# EAGLE library part FTDI_FT2232C (library OOCD-Link_simple-04)
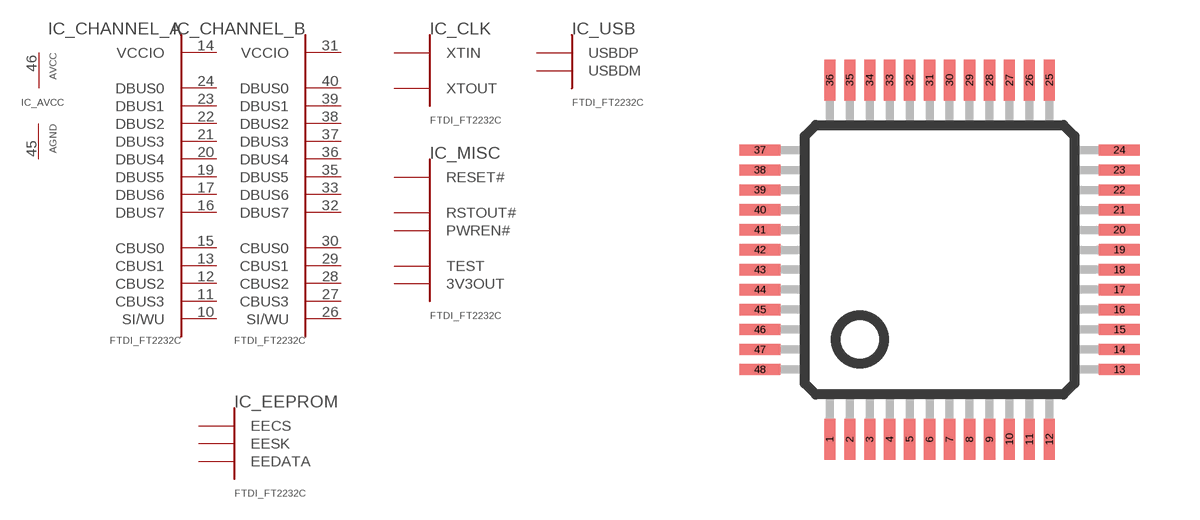
[diagram p0: symbol with the pads of FTDI_LQFP; footprint FTDI_LQFP]

Designator prefix IC; gates _AVCC=FTDI_FT2232_AVCC _CHANNEL_A=FTDI_FT2232_CHANNEL _CHANNEL_B=FTDI_FT2232_CHANNEL _CLK=FTDI_FT2232_CLK _EEPROM=FTDI_FT232_EEPROM _MISC=FTDI_FT2232_MISC _USB=FTDI_FT2232_USB

## FTDI_FT2232C  [FTDI_LQFP]
1  _EEPROM:EESK  out
2  _EEPROM:EEDATA
4  _MISC:RESET#  in
5  _MISC:RSTOUT#  out
6  _MISC:3V3OUT  pwr
7  _USB:USBDP
8  _USB:USBDM
10  _CHANNEL_A:SI/WU
11  _CHANNEL_A:CBUS3
12  _CHANNEL_A:CBUS2
13  _CHANNEL_A:CBUS1
14  _CHANNEL_A:VCCIO  pwr
15  _CHANNEL_A:CBUS0
16  _CHANNEL_A:DBUS7
17  _CHANNEL_A:DBUS6
19  _CHANNEL_A:DBUS5
20  _CHANNEL_A:DBUS4
21  _CHANNEL_A:DBUS3
22  _CHANNEL_A:DBUS2
23  _CHANNEL_A:DBUS1
24  _CHANNEL_A:DBUS0
26  _CHANNEL_B:SI/WU
27  _CHANNEL_B:CBUS3
28  _CHANNEL_B:CBUS2
29  _CHANNEL_B:CBUS1
30  _CHANNEL_B:CBUS0
31  _CHANNEL_B:VCCIO  pwr
32  _CHANNEL_B:DBUS7
33  _CHANNEL_B:DBUS6
35  _CHANNEL_B:DBUS5
36  _CHANNEL_B:DBUS4
37  _CHANNEL_B:DBUS3
38  _CHANNEL_B:DBUS2
39  _CHANNEL_B:DBUS1
40  _CHANNEL_B:DBUS0
41  _MISC:PWREN#  out
43  _CLK:XTIN  in
44  _CLK:XTOUT  out
45  _AVCC:AGND  pwr
46  _AVCC:AVCC  pwr
47  _MISC:TEST  in
48  _EEPROM:EECS  out

## Footprint FTDI_LQFP (pad centres in mm)
smd 0.279 x 1.016: 1 -2.75,-4.5; 2 -2.25,-4.5; 3 -1.75,-4.5; 4 -1.25,-4.5; 5 -0.75,-4.5; 6 -0.25,-4.5; 7 0.25,-4.5; 8 0.75,-4.5; 9 1.25,-4.5; 10 1.75,-4.5; 11 2.25,-4.5; 12 2.75,-4.5; 25 2.75,4.5; 26 2.25,4.5; 27 1.75,4.5; 28 1.25,4.5; 29 0.75,4.5; 30 0.25,4.5; 31 -0.25,4.5; 32 -0.75,4.5; 33 -1.25,4.5; 34 -1.75,4.5; 35 -2.25,4.5; 36 -2.75,4.5
smd 1.016 x 0.279: 13 4.5,-2.75; 14 4.5,-2.25; 15 4.5,-1.75; 16 4.5,-1.25; 17 4.5,-0.75; 18 4.5,-0.25; 19 4.5,0.25; 20 4.5,0.75; 21 4.5,1.25; 22 4.5,1.75; 23 4.5,2.25; 24 4.5,2.75; 37 -4.5,2.75; 38 -4.5,2.25; 39 -4.5,1.75; 40 -4.5,1.25; 41 -4.5,0.75; 42 -4.5,0.25; 43 -4.5,-0.25; 44 -4.5,-0.75; 45 -4.5,-1.25; 46 -4.5,-1.75; 47 -4.5,-2.25; 48 -4.5,-2.75